# EAGLE library part CRA06ES08 (library aurai)
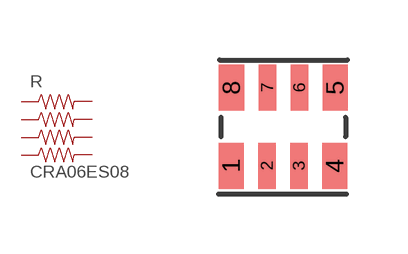
[diagram p2: symbol with the pads of CRA06S08; footprint CRA06S08]

Designator prefix R

## CRA06ES08  [CRA06S08]
1  R1A  pas
2  R2A  pas
3  R3A  pas
4  R4A  pas
5  R4B  pas
6  R3B  pas
7  R2B  pas
8  R1B  pas

## Footprint CRA06S08 (pad centres in mm)
This is the Vishay CRA06S package used for 8-pin resistor arrays.
smd 0.63 x 1.15: 1 -1.305,-0.98; 4 1.285,-0.98; 5 1.295,0.975; 8 -1.295,0.975
smd 0.44 x 1.15: 2 -0.41,-0.98; 3 0.39,-0.98; 6 0.4,0.975; 7 -0.4,0.975